# Altium footprint library TSSOP-20.PcbLib: 1 footprints
Each footprint in its own frame and in the unit in brackets; x right, y up, seen from the top. Pads: shape width x height; smd on the part's side, far side on the other; paste and mask are expansions set on the pad; w line width, h text height; cw(c..) or ccw(c..) is an arc to the next point about the centre after c.
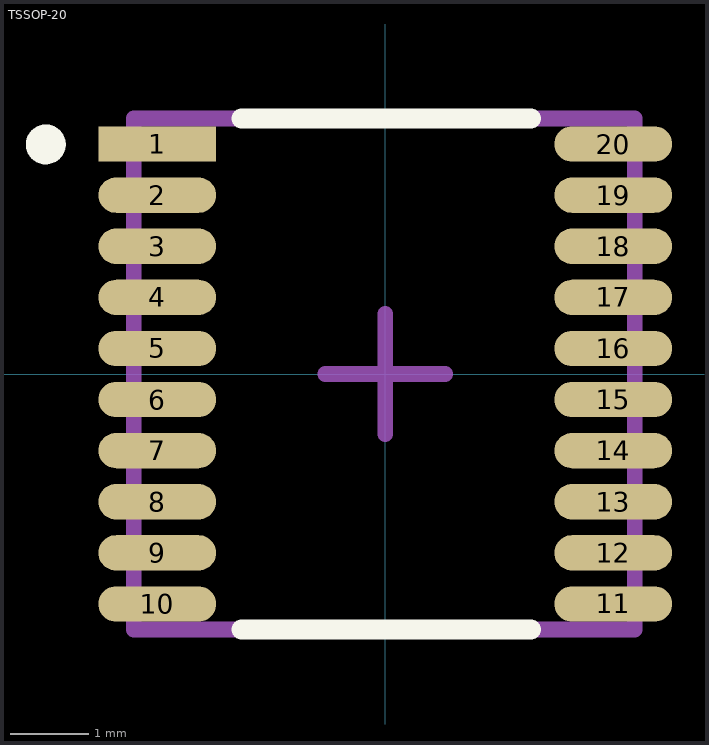
[diagram p0: the footprint, top view; thin cyan lines are the x and y axes]

## TSSOP-20 [mm]
pads (20):
  rect 1.5x0.45 smd mask+0.051: 1(-2.9,2.925)
  oval 1.5x0.45 smd mask+0.051: 2(-2.9,2.275) 3(-2.9,1.625) 4(-2.9,0.975) 5(-2.9,0.325) 6(-2.9,-0.325) 7(-2.9,-0.975) 8(-2.9,-1.625) 9(-2.9,-2.275) 10(-2.9,-2.925) 11(2.9,-2.925) 12(2.9,-2.275) 13(2.9,-1.625) 14(2.9,-0.975) 15(2.9,-0.325) 16(2.9,0.325) 17(2.9,0.975) 18(2.9,1.625) 19(2.9,2.275) 20(2.9,2.925)
Top Overlay:
  circle w0.254: c-4.318,2.921 r0.127
  lines w0.254: -1.83,-3.251 1.856,-3.251 ; -1.83,3.251 1.856,3.251
Top Designator:
  text ".Designator" at -8.053,-0.508 h1.52
3D Body:
  lines w0.2: 3.175,-3.25 -3.2,-3.25 -3.2,3.25 3.175,3.25 3.175,-3.25 ; 3.175,-3.25 3.175,-3.25
Center Cross:
  lines w0.2: -0.762,0 0,0 ; 0,-0.762 0,-0.508 0,0 ; 0,0.762 0,0 ; 0.762,0 0,0
3D body "TSSOP-20.STEP": height 1.16, standoff -0.04, extent -3.2,-3.25 3.2,3.25